# EAGLE library part VSP2582 (library ICs)
CCD analogue front end for digital cameras. 12b 36MHz CDS ADC.
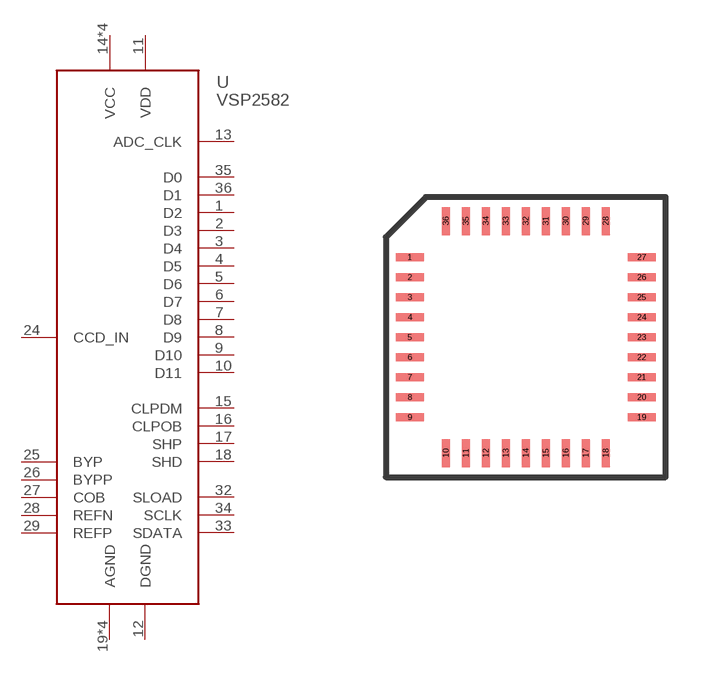
[diagram p310: symbol with the pads of PQFP36; footprint PQFP36]

Designator prefix U

## VSP2582RHN (DIGIKEY: 296-23849-ND; HEIGHT: 1; PRICE_PER: 9.74; VALUE: VSP2582)  [PQFP36]
1  D2
2  D3
3  D4
4  D5
5  D6
6  D7
7  D8
8  D9
9  D10
10  D11
11  VDD
12  DGND
13  ADC_CLK
14  VCC
15  CLPDM
16  CLPOB
17  SHP
18  SHD
19  AGND
20  VCC
21  VCC
22  AGND
23  AGND
24  CCD_IN
25  BYP
26  BYPP
27  COB
28  REFN
29  REFP
30  VCC
31  AGND
32  SLOAD
33  SDATA
34  SCLK
35  D0
36  D1

## Footprint PQFP36 (pad centres in mm)
smd 0.7 x 0.2: 1 -2.9,2; 2 -2.9,1.5; 3 -2.9,1; 4 -2.9,0.5; 5 -2.9,0; 6 -2.9,-0.5; 7 -2.9,-1; 8 -2.9,-1.5; 9 -2.9,-2; 19 2.9,-2; 20 2.9,-1.5; 21 2.9,-1; 22 2.9,-0.5; 23 2.9,0; 24 2.9,0.5; 25 2.9,1; 26 2.9,1.5; 27 2.9,2
smd 0.2 x 0.7: 10 -2,-2.9; 11 -1.5,-2.9; 12 -1,-2.9; 13 -0.5,-2.9; 14 0,-2.9; 15 0.5,-2.9; 16 1,-2.9; 17 1.5,-2.9; 18 2,-2.9; 28 2,2.9; 29 1.5,2.9; 30 1,2.9; 31 0.5,2.9; 32 0,2.9; 33 -0.5,2.9; 34 -1,2.9; 35 -1.5,2.9; 36 -2,2.9